# Altium footprint library SnapEDApcb.PcbLib: 1 footprints
Each footprint in its own frame and in the unit in brackets; x right, y up, seen from the top. Pads: shape width x height; smd on the part's side, far side on the other; paste and mask are expansions set on the pad; w line width, h text height; cw(c..) or ccw(c..) is an arc to the next point about the centre after c.
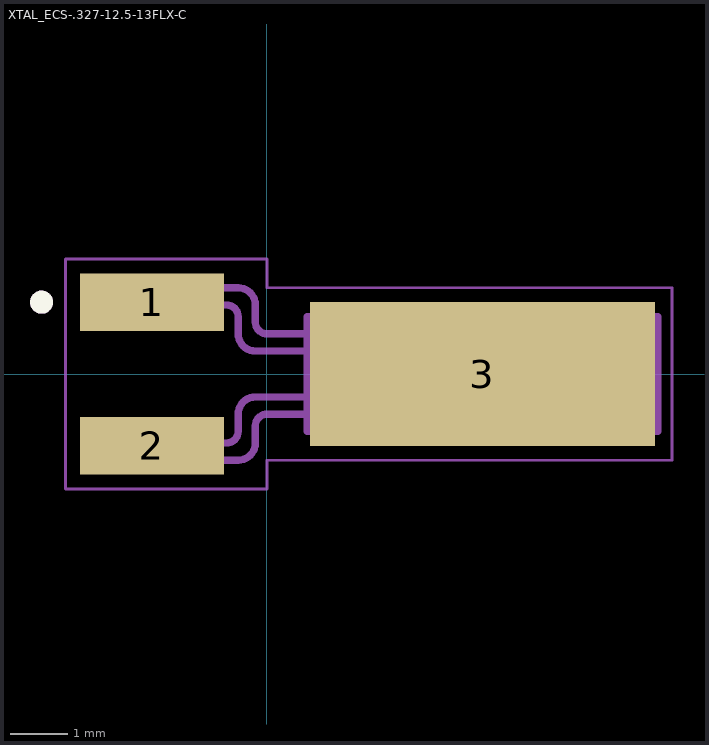
[diagram p0: the footprint, top view; thin cyan lines are the x and y axes]

## XTAL_ECS-.327-12.5-13FLX-C [mm]
pads (3):
  rect 2.5x1 smd: 1(-2,1.25) 2(-2,-1.25)
  rect 6x2.5 smd paste-4: 3(3.75,0)
Top Overlay:
  circle w0.2: c-3.919,1.249 r0.1
Top Paste:
  region: 5.64,-0.791 1.863,-0.791 1.863,0.79 5.64,0.79
Mechanical 13:
  circle w0.2: c-3.919,1.249 r0.1
  lines w0.127: 0.7,0.4 -0.2,0.4 cw(c-0.2,0.7) -0.5,0.7 -0.5,1 ccw(c-0.7,1) -0.7,1.2 -3.1,1.2 -3.1,1.5 -0.5,1.5 cw(c-0.5,1.2) -0.2,1.2 -0.2,0.9 ccw(c0,0.9) 0,0.7 0.7,0.7 ; 0.7,-0.7 0,-0.7 ccw(c0,-0.9) -0.2,-0.9 -0.2,-1.2 cw(c-0.5,-1.2) -0.5,-1.5 -3.1,-1.5 -3.1,-1.2 -0.7,-1.2 ccw(c-0.7,-1) -0.5,-1 -0.5,-0.7 cw(c-0.2,-0.7) -0.2,-0.4 0.7,-0.4 ; 0.7,-0.7 0.7,-0.4 ; 0.7,-0.7 0.7,-1 6.8,-1 6.8,1 0.7,1 0.7,-0.4
Mechanical 15:
  lines w0.05: -3.5,-2 -3.5,2 0,2 0,1.5 7.05,1.5 7.05,-1.5 0,-1.5 0,-2 -3.5,-2
3D body "ECS-.327-12.5-13FLX--3DModel-STEP-40055.STEP": height 2.07, standoff -0.03, extent -2.619,-1.41 6.631,1.41